# Altium integrated library DFLR1200.IntLib: 1 symbol
Pins are listed as number, name and electrical type; pins without a type are passive.

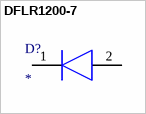
[diagram p0: symbol DFLR1200-7]

## DFLR1200-7
designator D?
Diode; Manufacturer_Name: Diodes Inc.; Manufacturer_Part_Number: DFLR1200-7; Datasheet Link: https://www.diodes.com/assets/Datasheets/ds30602.pdf; Mouser Part Number: 621-DFLR1200-7; Mouser Price/Stock: https://www.mouser.com/Search/Refine.aspx?Keyword=621-DFLR1200-7; RS Part Number: 7082214P; RS Price/Stock: http://uk.rs-online.com/web/p/products/7082214P
footprint POWERDI123_1
pins: 1 K, 2 A